# Altium footprint library CON6_JST_SH-SM2.PcbLib: 1 footprints
Each footprint in its own frame and in the unit in brackets; x right, y up, seen from the top. Pads: shape width x height; smd on the part's side, far side on the other; paste and mask are expansions set on the pad; w line width, h text height; cw(c..) or ccw(c..) is an arc to the next point about the centre after c.
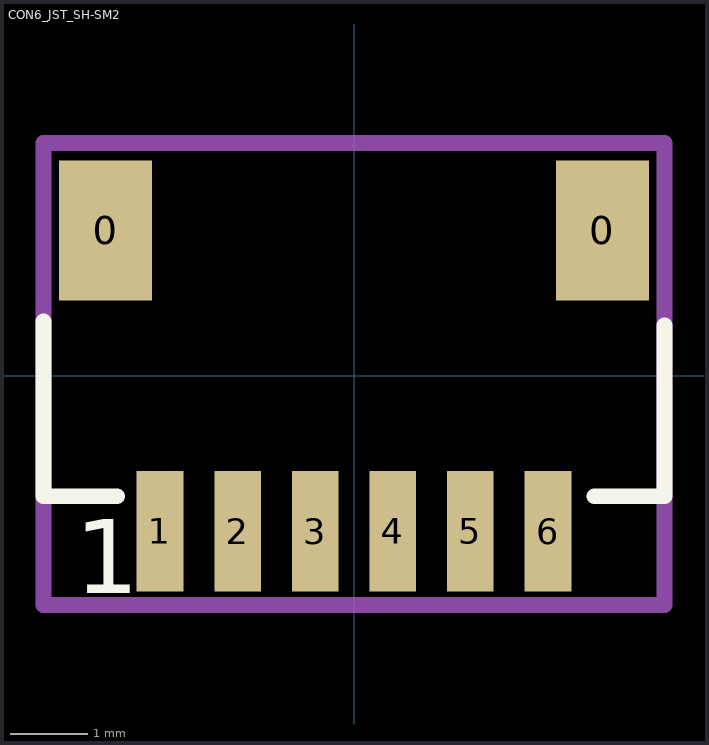
[diagram p0: the footprint, top view; thin cyan lines are the x and y axes]

## CON6_JST_SH-SM2 [mm] "1.0mm pitch"
height 2.95
pads (8):
  rect 1.2x1.8 smd: 0(-3.2,1.875) 0(3.2,1.875)
  rect 0.6x1.55 smd: 1(-2.5,-2) 2(-1.5,-2) 3(-0.5,-2) 4(0.5,-2) 5(1.5,-2) 6(2.5,-2)
Top Overlay:
  lines w0.203: -4,0.7 -4,-1.55 -3.05,-1.55 ; 3.1,-1.55 4,-1.55 4,0.65
  text "1" at -3.6,-2.8 h0.95
Mechanical 1:
  lines w0.203: -4,-1.269 -4,-0.05 ; -4,-1.269 -4,-1.675 -4,-2.95 -0.95,-2.95 4,-2.95 4,3 -4,3 -4,-0.05 ; -4,-1.269 -4,-0.05
3D body "SM06B-SRSS-TB.STEP": height 2.96, standoff 0, extent -4,-2.18 4,2.77